# Altium schematic symbol library SWITCH_SPST_PUSH_NO_4.SchLib: 1 symbol
Pins are listed as number, name and electrical type; pins without a type are passive.

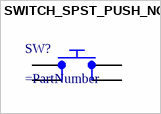
[diagram p0: symbol SWITCH_SPST_PUSH_NO_4]

## SWITCH_SPST_PUSH_NO_4
designator SW?
pins: 1, 2, 3, 4